# Altium schematic symbol library Cube.SchLib: 34 symbols
Pins are listed as number, name and electrical type; pins without a type are passive.

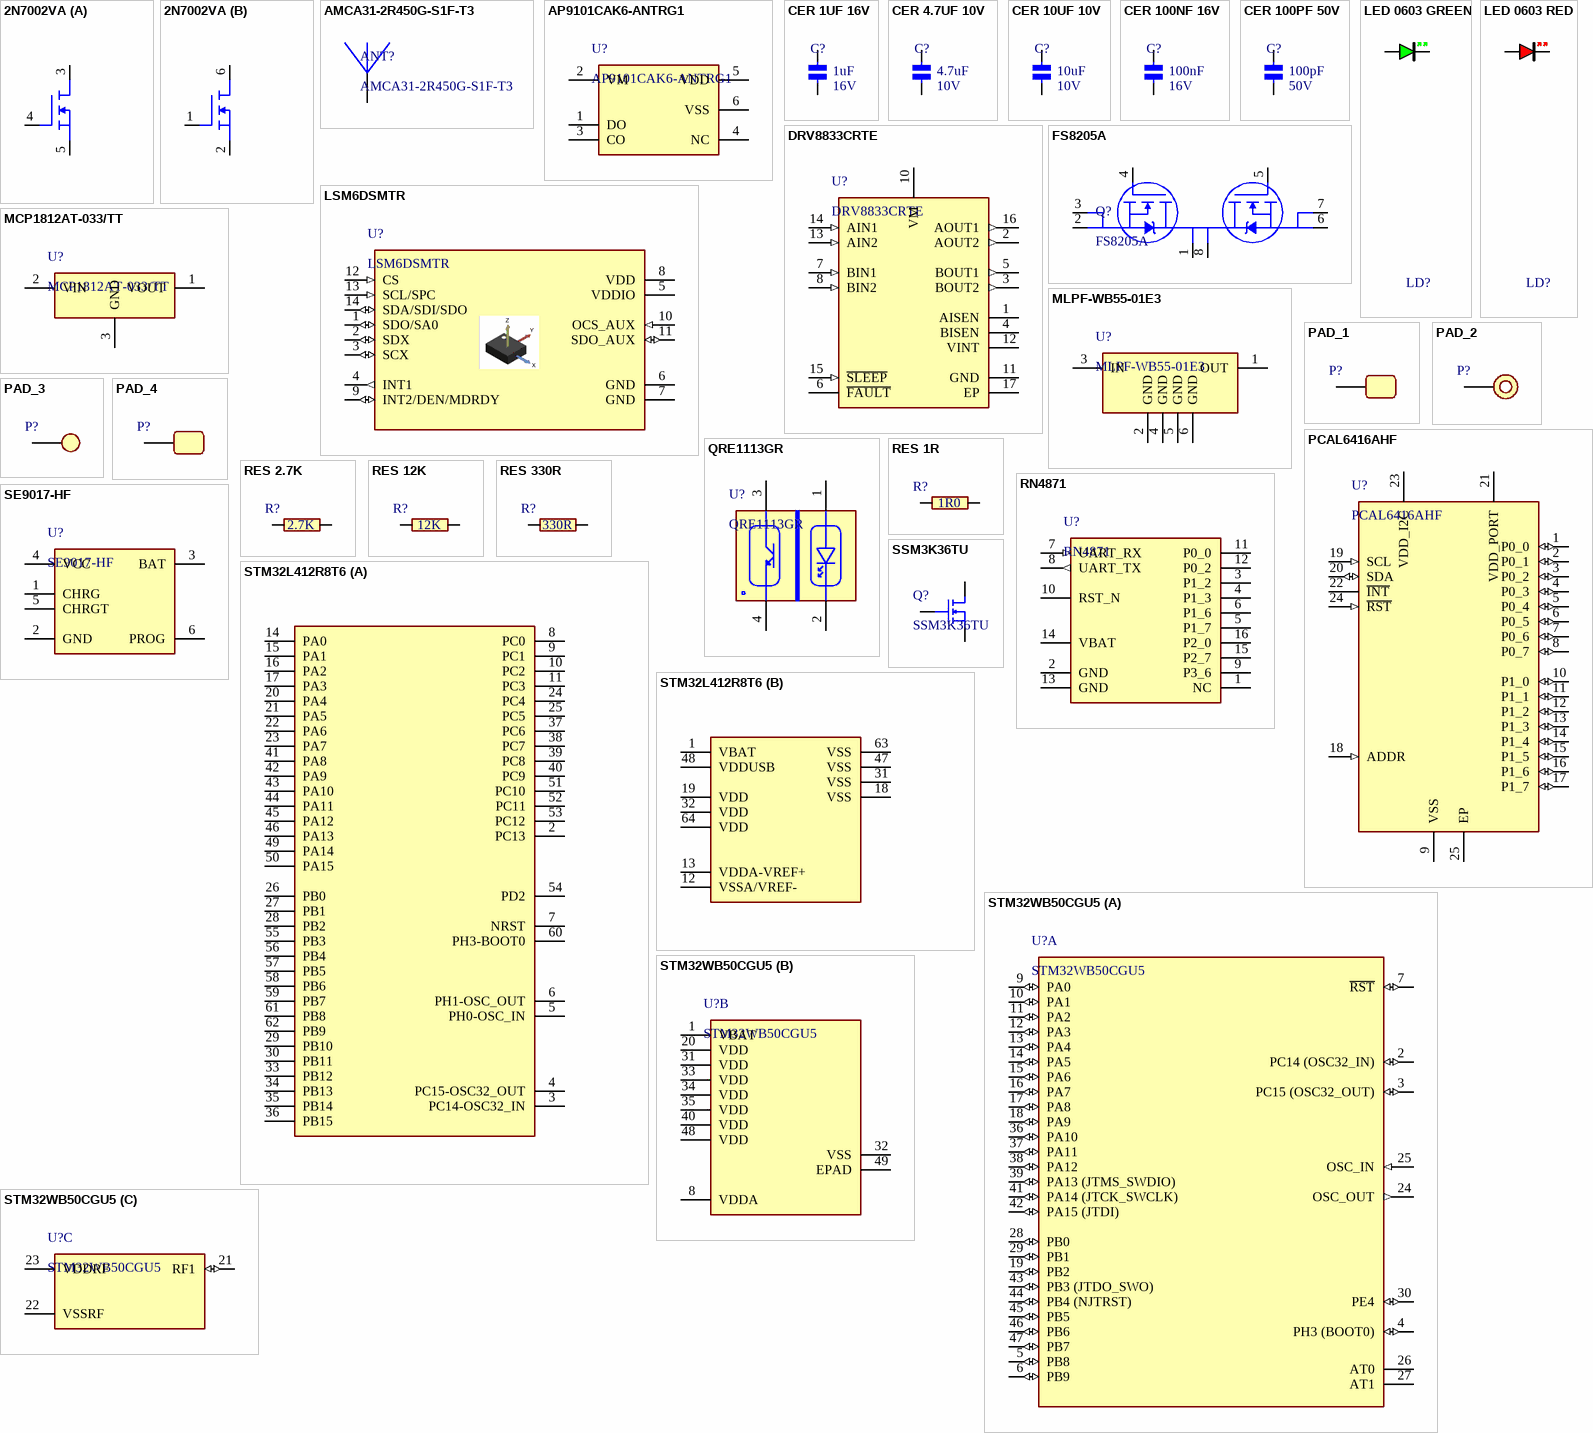
[diagram p0: symbols 2N7002VA to STM32WB50CGU5]

## 2N7002VA
designator Q?
Mosfet Array 2 N-Channel (Dual) 60V 280mA 150mW Surface Mount SOT-563; Manufacturer: Diodes Incorporated; Manufacturer Part Number: 2N7002VA-7-F; Categories: Transistors; Case: SOT-563; Notes: -
footprint 2N7002VA (SOTFL, 6-Leads, Body 1.60x1.63mm, Pitch 0.50mm, IPC Medium Density)
part A pins: 3 D1, 4 G1, 5 S1
part B pins: 1 G2, 2 S2, 6 D2

## AMCA31-2R450G-S1F-T3
designator ANT?
RF ANT 2.4GHZ CHIP SOLDER SMD; Manufacturer: Abracon LLC; Categories: RF Antennas; Case: 3.2X1.6X1.2mm; Manufacturer Part Number: AMCA31-2R450G-S1F-T3; Supplier 1: Digi-Key; Supplier Part Number 1: 535-14095-1-ND
footprint AMCA31-2R450G-S1F-T3
pins: 1

## AP9101CAK6-ANTRG1
designator U?
IC BATT PROT LI-ION 1-CELL SOT26; Manufacturer: Diodes Incorporated; Category: PMIC - Battery Management; Case: SOT-23-6; Manufacturer Part Number: AP9101CAK6-ANTRG1; Supplier 1: Digi-Key; Supplier Part Number 1: AP9101CAK6-ANTRG1DICT-ND
footprint AP9101CAK6 (SOT23, 6-Leads, Body 3.00x2.85mm, Pitch 0.95mm, IPC Medium Density)
pins: 1 DO, 2 VM, 3 CO, 4 NC, 5 VDD, 6 VSS

## CER 1UF 16V
designator C?, comment Voltage - Rated: 16V  (hidden comment: 1uF)
CAP CER 1UF 16V X5R 0402; Manufacturer: Samsung Electro-Mechanics; Manufacturer Part Number: CL05A105KO5NNNC; Category: Capacitors; Supplier 1: LCSC; Supplier Part Number 1: C29266; Package / Case: 0402; Capacitance: 1uF
footprint CAPC0402X05N (Chip Capacitor, 2-Leads, Body 1.00x0.50mm, IPC Medium Density)
pins: 1, 2

## CER 4.7UF 10V
designator C?, comment Voltage - Rated: 10V  (hidden comment: 4.7uF)
CAP CER 4.7UF 10V X5R 0402; Manufacturer: Samsung Electro-Mechanics; Manufacturer Part Number: CL05A475MP5NRNC; Category: Capacitors; Supplier 1: LCSC; Supplier Part Number 1: C23733; Package / Case: 0402; Capacitance: 4.7uF
footprint CAPC0402X05N (Chip Capacitor, 2-Leads, Body 1.00x0.50mm, IPC Medium Density)
pins: 1, 2

## CER 10UF 10V
designator C?, comment Voltage - Rated: 10V  (hidden comment: 10uF)
CAP CER 10UF 10V X5R 0402; Manufacturer: Murata Electronics; Manufacturer Part Number: GRM155R61A106ME44D; Category: Capacitors; Supplier 1: LCSC; Supplier Part Number 1: C77000; Package / Case: 0402; Capacitance: 10uF
footprint CAPC0402X05N (Chip Capacitor, 2-Leads, Body 1.00x0.50mm, IPC Medium Density)
pins: 1, 2

## CER 100NF 16V
designator C?, comment Voltage - Rated: 16V  (hidden comment: 100nF)
CAP CER 0.1UF 16V X7R 0402; Manufacturer: Samsung Electro-Mechanics; Manufacturer Part Number: CL05B104KO5NNNC; Category: Capacitors; Supplier 1: LCSC; Supplier Part Number 1: C1525; Package / Case: 0402; Capacitance: 100nF
footprint CAPC0402X05N (Chip Capacitor, 2-Leads, Body 1.00x0.50mm, IPC Medium Density)
pins: 1, 2

## CER 100PF 50V
designator C?, comment Voltage - Rated: 50V  (hidden comment: 100pF)
CAP CER 100PF 50V C0G/NP0 0402; Manufacturer: Samsung Electro-Mechanics; Manufacturer Part Number: CL05C101JB5NNNC; Category: Capacitors; Supplier 1: LCSC; Supplier Part Number 1: C26409; Package / Case: 0402; Capacitance: 100pF
footprint CAPC0402X05N (Chip Capacitor, 2-Leads, Body 1.00x0.50mm, IPC Medium Density)
pins: 1, 2

## DRV8833CRTE
designator U?
Bipolar Motor Driver Power MOSFET PWM 16-WQFN (3x3); Manufacturer: Texas Instruments; Categories: Motor Drivers, Controllers; Case: 16-WQFN Exposed Pad; Manufacturer Part Number: DRV8833CRTE; Supplier 1: LCSC; Supplier Part Number 1: C154936
footprint DRV8833CRTER (QFN, 16-Leads, Body 3.00x3.00mm, Pitch 0.50mm, Thermal Pad 1.66x1.66mm, IPC Medium Density)
pins: 1 AISEN, 2 AOUT2 (out), 3 BOUT2 (out), 4 BISEN, 5 BOUT1 (out), 6 ~{FAULT} (oc), 7 BIN1 (in), 8 BIN2 (in), 10 VM (power), 11 GND (power), 12 VINT (power), 13 AIN2 (in), 14 AIN1 (in), 15 ~{SLEEP} (in), 16 AOUT1 (out), 17 EP

## FS8205A
designator Q?
MOSFET 2N-CH 20V 6A TSSOP8; Manufacturer: Fortune Semicon; Category: Transistors; Case: TSSOP-8; Manufacturer Part Number: FS8205A; Supplier 1: LCSC; Supplier Part Number 1: C16052
footprint FS8205A (TSOP, 8-Leads, Body 2.93x4.40mm, Pitch 0.65mm, IPC Medium Density)
footprint Model Name (Model Description)
pins: 1 D12, 2 S1, 3 S1, 4 G1, 5 G2, 6 S2, 7 S2, 8 D12

## LED 0603 GREEN
designator LD?, comment Green  (value not drawn)
LED GREEN CLEAR CHIP SMD; Manufacturer: Lite-On Inc.; Manufacturer Part Number: LTST-C190KGKT; Category: LED; Package / Case: 0603 (1608 Metric); Color: Green; Supplier 1: LCSC; Supplier Part Number 1: C125094
footprint LEDM0603X08N_GREEN (0603 chip LED)
pins: 1, 2

## LED 0603 RED
designator LD?, comment Red  (value not drawn)
LED RED CLEAR CHIP SMD; Manufacturer: Lite-On Inc.; Manufacturer Part Number: LTST-C190KRKT; Category: LED; Package / Case: 0603 (1608 Metric); Color: Red; Supplier 1: LCSC; Supplier Part Number 1: C94869
footprint LEDM0603X08N_RED (0603 chip LED)
pins: 1, 2

## LSM6DSMTR
designator U?
IMU ACCEL/GYRO I2C/SPI 14LGA; Manufacturer: STMicroelectronics; Categories: IMUs (Inertial Measurement Units); Case: 14-VFLGA Module; Manufacturer Part Number: LSM6DSMTR; Supplier 1: Digi-Key; Supplier Part Number 1: 497-16696-1-ND
footprint LSM6DSMTR (PQFN, 14-Leads, Body 3.00x2.50mm, Pitch 0.50mm, IPC Medium Density)
pins: 1 SDO/SA0 (io), 2 SDX (io), 3 SCX (io), 4 INT1 (out), 5 VDDIO (power), 6 GND (power), 7 GND (power), 8 VDD (power), 9 INT2/DEN/MDRDY (io), 10 OCS_AUX (in), 11 SDO_AUX (io), 12 CS (in), 13 SCL/SPC (in), 14 SDA/SDI/SDO (io)

## MCP1812AT-033/TT
designator U?
IC REG LINEAR 3.3V 300MA SOT23-3; Manufacturer: Microchip Technology; Categories: Voltage Regulators - Linear; Case: TO-236-3, SC-59, SOT-23-3; Manufacturer Part Number: MCP1812AT-033/TT; Supplier 1: Digi-Key; Supplier Part Number 1: MCP1812AT-033/TTCT-ND
footprint MCP1812AT-033/TT (SOT23, 3-Leads, Body 2.00x2.10mm, Pitch 0.65mm, IPC Medium Density)
pins: 1 VOUT, 2 VIN, 3 GND

## MLPF-WB55-01E3
designator U?
RF FILTER LOW PASS 2.45GHZ 6SMD; Manufacturer: STMicroelectronics; Categories: RF Filters; Frequency: 2.45GHz Center; Bandwidth: 100MHz; Case: 6-SMD, No Lead; Manufacturer Part Number: MLPF-WB55-01E3; Supplier 1: Digi-Key; Supplier Part Number 1: 497-19088-1-ND
footprint MLPF-WB55-01E3
pins: 1 OUT, 2 GND, 3 IN, 4 GND, 5 GND, 6 GND

## PAD_1
designator P?  (value not drawn)  (no BOM)
a Rec Pad, 1.0X1.5mm
footprint PAD_1.0X1.5MM
pins: 1

## PAD_2
designator P?  (value not drawn)  (no BOM)
a Round Pad 1.5mm with hole
footprint PAD_ROUND_1.5MM_H
pins: 1

## PAD_3
designator P?  (value not drawn)  (no BOM)
a Round Pad 1mm
footprint PAD_ROUND_1MM
pins: 1

## PAD_4
designator P?  (value not drawn)  (no BOM)
a Rec pad, 0.5X1mm
footprint PAD_0.5X1MM
pins: 1

## PCAL6416AHF
designator U?
IC I/O EXPANDER 16BIT 24HWQFN; Manufacturer: NXP USA Inc.; Categories: I/O Expanders; Case: 24-WFQFN Exposed Pad; Manufacturer Part Number: PCAL6416AHF; Supplier 1: Digi-Key; Supplier Part Number 1: 568-9946-1-ND
footprint PCAL6416AHF (QFN, 24-Leads, Body 4.00x4.00mm, Pitch 0.50mm, Thermal Pad 2.10x2.10mm, IPC Medium Density)
pins: 1 P0_0 (io), 2 P0_1 (io), 3 P0_2 (io), 4 P0_3 (io), 5 P0_4 (io), 6 P0_5 (io), 7 P0_6 (io), 8 P0_7 (io), 9 VSS (power), 10 P1_0 (io), 11 P1_1 (io), 12 P1_2 (io), 13 P1_3 (io), 14 P1_4 (io), 15 P1_5 (io), 16 P1_6 (io), 17 P1_7 (io), 18 ADDR (in), 19 SCL (in), 20 SDA (io), 21 VDD_PORT (power), 22 ~{INT} (oc), 23 VDD_I2C (power), 24 ~{RST} (in), 25 EP (power)

## QRE1113GR
designator U?
SENSOR OPTO TRANS REFL SMD PHOTO; Manufacturer: ON Semiconductor; Category: Optical Sensors; Case: 4-SMD Module; Manufacturer Part Number: QRE1113GR
footprint QRE1113GR
pins: 1, 2, 3, 4

## RES 1R
designator R?, comment 1R0
RES SMD 11RK OHM 1% 1/16W 0402; Manufacturer: YAGEO; Manufacturer Part Number: RC0402FR-071RL; Category: Resistors; Package / Case: 0402; Supplier 1: LCSC; Supplier Part Number 1: C185446; Resistance: 1R0
footprint RESC0402X04N (Chip Resistor, 2-Leads, Body 1.00x0.50mm, IPC Medium Density)
pins: 1, 2

## RES 2.7K
designator R?, comment 2.7K
RES SMD 2.7K OHM 1% 1/16W 0402; Manufacturer: YAGEO; Manufacturer Part Number: AC0402FR-072K7L; Category: Resistors; Package / Case: 0402; Supplier 1: LCSC; Supplier Part Number 1: C144771; Resistance: 2.7K
footprint RESC0402X04N (Chip Resistor, 2-Leads, Body 1.00x0.50mm, IPC Medium Density)
pins: 1, 2

## RES 12K
designator R?, comment 12K
RES SMD 12K OHM 1% 1/16W 0402; Manufacturer: YAGEO; Manufacturer Part Number: RC0402FR-0712KL; Category: Resistors; Package / Case: 0402; Supplier 1: LCSC; Supplier Part Number 1: C114760; Resistance: 12K
footprint RESC0402X04N (Chip Resistor, 2-Leads, Body 1.00x0.50mm, IPC Medium Density)
pins: 1, 2

## RES 330R
designator R?, comment 330R
RES SMD 330R OHM 1% 1/16W 0402; Manufacturer: YAGEO; Manufacturer Part Number: RC0402FR-07330RL; Category: Resistors; Package / Case: 0402; Supplier 1: LCSC; Supplier Part Number 1: C105875; Resistance: 330R
footprint RESC0402X04N (Chip Resistor, 2-Leads, Body 1.00x0.50mm, IPC Medium Density)
pins: 1, 2

## RN4871
designator U?
Bluetooth Bluetooth v5.0 Transceiver Module 2.4GHz Integrated, Chip Surface Mount; Manufacturer: Microchip Technology; Manufacturer Part Number: RN4871-I/RM130; Categories: RF Transceiver Modules; Case: 16-SMD Module
footprint RN4871
pins: 1 NC, 2 GND, 3 P1_2, 4 P1_3, 5 P1_7, 6 P1_6, 7 UART_RX (in), 8 UART_TX (out), 9 P3_6, 10 RST_N, 11 P0_0, 12 P0_2, 13 GND, 14 VBAT, 15 P2_7, 16 P2_0

## SE9017-HF
designator U?
IC LI-ION/LI-POLY CTRLR SOT23-6; Manufacturer: Seaward Elec; Category: PMIC - Battery Chargers; Case: SOT-23-6; Manufacturer Part Number: SE9017-HF; Supplier 1: LCSC; Supplier Part Number 1: C115751
footprint SE9017-HF (SOT23, 6-Leads, Body 2.90x2.80mm, Pitch 0.95mm, IPC Medium Density)
pins: 1 CHRG, 2 GND, 3 BAT, 4 VCC, 5 CHRGT, 6 PROG

## SSM3K36TU
designator Q?
N-Channel 20V 500mA (Ta) 800mW (Ta) Surface Mount UFM; Manufacturer: Toshiba Semiconductor and Storage; Categories: Transistors; Case: UFM; Manufacturer Part Number: SSM3K36TU; Supplier 1: SSM3K36TULFCT-ND; Supplier Part Number 1: Digi-Key
footprint SSM3K36TU (SOTFL, 3-Leads, Body 2.00x2.10mm, Pitch 0.65mm, IPC Medium Density)
pins: 1, 2, 3

## STM32L412R8T6
designator U?
ARM® Cortex®-M4 STM32L4 Microcontroller IC 32-Bit 80MHz 64KB (64K x 8) FLASH 64-LQFP (10x10); Manufacturer: STMicroelectronics; Categories: Microcontrollers; Manufacturer Part Number: STM32L412R8T6; Case: 64-LQFP (10x10); Notes: -
footprint STM32L412R (TSQFP, 64-Leads, Body 10.00x10.00mm, Pitch 0.50mm, IPC Medium Density)
part A pins: 2 PC13, 3 PC14-OSC32_IN, 4 PC15-OSC32_OUT, 5 PH0-OSC_IN, 6 PH1-OSC_OUT, 7 NRST, 8 PC0, 9 PC1, 10 PC2, 11 PC3, 14 PA0, 15 PA1, 16 PA2, 17 PA3, 20 PA4, 21 PA5, 22 PA6, 23 PA7, 24 PC4, 25 PC5, 26 PB0, 27 PB1, 28 PB2, 29 PB10, 30 PB11, 33 PB12, 34 PB13, 35 PB14, 36 PB15, 37 PC6, 38 PC7, 39 PC8, 40 PC9, 41 PA8, 42 PA9, 43 PA10, 44 PA11, 45 PA12, 46 PA13, 49 PA14, 50 PA15, 51 PC10, 52 PC11, 53 PC12, 54 PD2, 55 PB3, 56 PB4, 57 PB5, 58 PB6, 59 PB7, 60 PH3-BOOT0, 61 PB8, 62 PB9
part B pins: 1 VBAT, 12 VSSA/VREF-, 13 VDDA-VREF+, 18 VSS, 19 VDD, 31 VSS, 32 VDD, 47 VSS, 48 VDDUSB, 63 VSS, 64 VDD

## STM32WB50CGU5
designator U?
ULTRA-LOW-POWER DUAL CORE ARM CO; Manufacturer: STMicroelectronics; Categories: RF Transceiver ICs; Case: 48-UFQFN Exposed Pad; Supplier 1: Digi-Key; Supplier Part Number 1: 497-STM32WB50CGU5-ND; Manufacturer Part Number: STM32WB50CGU5
footprint STM32WB50CGU5 (QFN, 48-Leads, Body 7.00x7.00mm, Pitch 0.50mm, Thermal Pad 5.60x5.60mm, IPC Medium Density)
part A pins: 2 PC14 (OSC32_IN) (io), 3 PC15 (OSC32_OUT) (io), 4 PH3 (BOOT0) (io), 5 PB8 (io), 6 PB9 (io), 7 ~{RST} (io), 9 PA0 (io), 10 PA1 (io), 11 PA2 (io), 12 PA3 (io), 13 PA4 (io), 14 PA5 (io), 15 PA6 (io), 16 PA7 (io), 17 PA8 (io), 18 PA9 (io), 19 PB2 (io), 24 OSC_OUT (out), 25 OSC_IN (in), 26 AT0 "Reserved for production, must be kept unconnected.", 27 AT1 "Reserved for production, must be kept unconnected.", 28 PB0 (io), 29 PB1 (io), 30 PE4 (io), 36 PA10 (io), 37 PA11 (io), 38 PA12 (io), 39 PA13 (JTMS_SWDIO) (io), 41 PA14 (JTCK_SWCLK) (io), 42 PA15 (JTDI) (io), 43 PB3 (JTDO_SWO) (io), 44 PB4 (NJTRST) (io), 45 PB5 (io), 46 PB6 (io), 47 PB7 (io)
part B pins: 1 VBAT (power), 8 VDDA (power), 20 VDD (power), 31 VDD (power), 32 VSS (power), 33 VDD (power), 34 VDD (power), 35 VDD (power), 40 VDD (power), 48 VDD (power), 49 EPAD
part C pins: 21 RF1 (io), 22 VSSRF (power), 23 VDDRF (power)

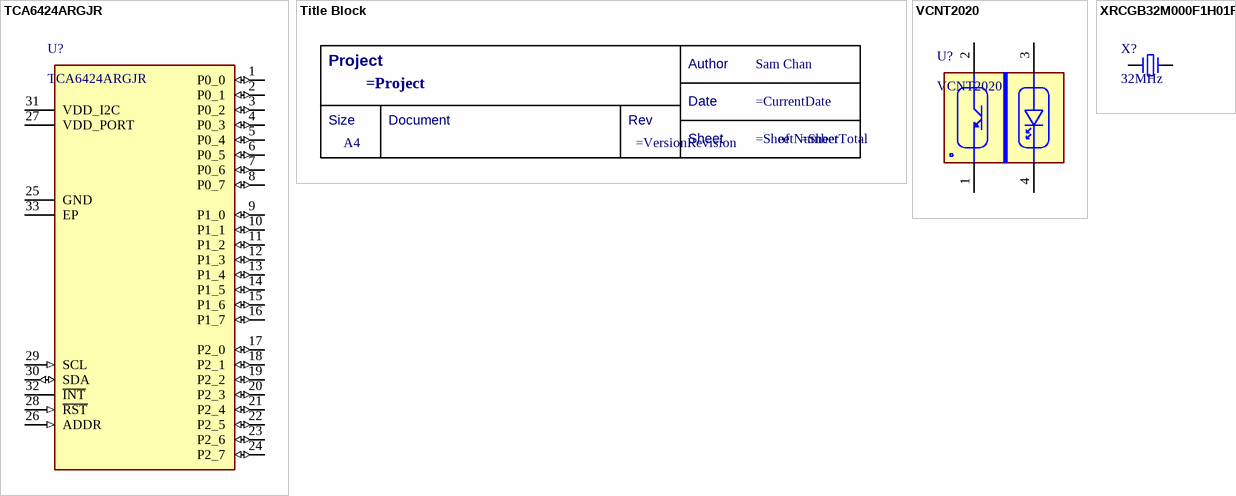
[diagram p1: symbols TCA6424ARGJR to XRCGB32M000F1H01R0]

## TCA6424ARGJR
designator U?
IC I/O EXPANDER I2C 24B 32UQFN; Manufacturer: Texas Instruments; Categories: I/O Expanders; Case: 32-UFQFN Exposed Pad; Manufacturer Part Number: TCA6424ARGJR; Supplier 1: LCSC; Supplier Part Number 1: C80692
footprint TCA6424ARGJR (QFN, 32-Leads, Body 5.00x5.00mm, Pitch 0.50mm, Thermal Pad 3.15x3.15mm, IPC Medium Density)
pins: 1 P0_0 (io), 2 P0_1 (io), 3 P0_2 (io), 4 P0_3 (io), 5 P0_4 (io), 6 P0_5 (io), 7 P0_6 (io), 8 P0_7 (io), 9 P1_0 (io), 10 P1_1 (io), 11 P1_2 (io), 12 P1_3 (io), 13 P1_4 (io), 14 P1_5 (io), 15 P1_6 (io), 16 P1_7 (io), 17 P2_0 (io), 18 P2_1 (io), 19 P2_2 (io), 20 P2_3 (io), 21 P2_4 (io), 22 P2_5 (io), 23 P2_6 (io), 24 P2_7 (io), 25 GND (power), 26 ADDR (in), 27 VDD_PORT (power), 28 ~{RST} (in), 29 SCL (in), 30 SDA (io), 31 VDD_I2C (power), 32 ~{INT} (oc), 33 EP (power)

## Title Block
designator *  (value not drawn)  (graphical)
Standard Title Block
text: Project; Author; Sam Chan; Date; Size; Document; Rev; A4; Sheet; of

## VCNT2020
designator U?
REFLECTIVE SENSOR WITH PTR OUTPU; Manufacturer: Vishay Semiconductor Opto Division; Category: Optical Sensors; Case: 4-SMD Module; Manufacturer Part Number: VCNT2020; Supplier 1: RS; Supplier Part Number 1: 161-2156
footprint VCNT2020 (4-SMD)
pins: 1, 2, 3, 4

## XRCGB32M000F1H01R0
designator X?, comment 32MHz
2.0X1.6X0.65MM 32MHZ CRYSTAL; Manufacturer: Murata Electronics; Manufacturer Part Number: XRCGB32M000F1H01R0; Categories: Crystals; Case: SMD; Supplier 1: Digi-Key; Supplier Part Number 1: 490-18334-1-ND
footprint XRCGB32M000F1H01R0
pins: 1, 3